# Altium footprint library SeniorProject.PcbLib: 19 footprints (part 2 of 2)
Each footprint in its own frame and in the unit in brackets; x right, y up, seen from the top. Pads: shape width x height; smd on the part's side, far side on the other; paste and mask are expansions set on the pad; w line width, h text height; cw(c..) or ccw(c..) is an arc to the next point about the centre after c.
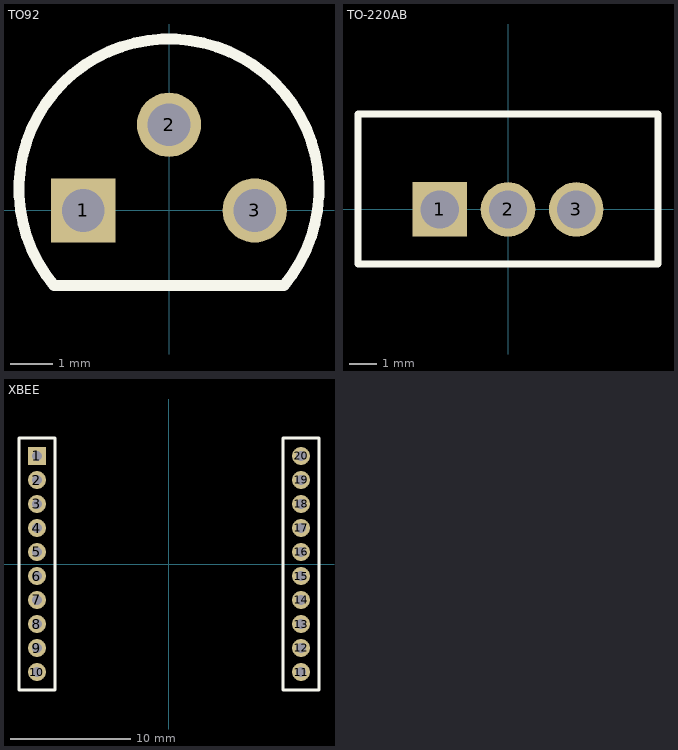
[diagram p1: the footprints below, top view; thin cyan lines are the x and y axes]

## TO92 [mm]
pads (3):
  rect 1.5x1.5 hole 1: 1(-2,0)
  round 1.5 hole 1: 2(0,2) 3(2,0)
Top Overlay:
  lines w0.25: -2.681,-1.75 2.681,-1.75
  lines w0.254: -2.681,-1.75 cw(c0,0.5) 2.681,-1.75
3D body "TO-92.stp": height 6.18, standoff -3, extent -2.294,-0.64 2.278,2.92

## TO-220AB [mm]
pads (3):
  rect 2x2 hole 1.4: 1(-2.5,0)
  round 2 hole 1.4: 2(0,0) 3(2.5,0)
Top Overlay:
  lines w0.25: -5.5,-2 5.5,-2 5.5,3.5 -5.5,3.5 -5.5,-2
3D body "TO-220AB-ST.stp": height 19.5, standoff -9.2, extent -5.325,-1.75 5.325,3.05

## XBEE [mm]
pads (20):
  rect 1.5x1.5 hole 0.8: 1(-11,9)
  round 1.5 hole 0.8: 2(-11,7) 3(-11,5) 4(-11,3) 5(-11,1) 6(-11,-1) 7(-11,-3) 8(-11,-5) 9(-11,-7) 10(-11,-9) 11(11,-9) 12(11,-7) 13(11,-5) 14(11,-3) 15(11,-1) 16(11,1) 17(11,3) 18(11,5) 19(11,7) 20(11,9)
Top Overlay:
  lines w0.25: -12.5,-10.5 -9.5,-10.5 -9.5,10.5 -12.5,10.5 -12.5,-10.5 ; 9.5,-10.5 12.5,-10.5 12.5,10.5 9.5,10.5 9.5,-10.5
3D body "M22-7131042.step": height 3.99, standoff -4.81, extent 9.997,-9.995 12.003,9.995
3D body "M22-7131042.step": height 3.99, standoff -4.81, extent -12.003,-9.995 -9.997,9.995